# Altium integrated library RESISTORS_THD_AX14_8mm_Integrated_Library.IntLib: 36 symbols
Pins are listed as number, name and electrical type; pins without a type are passive.

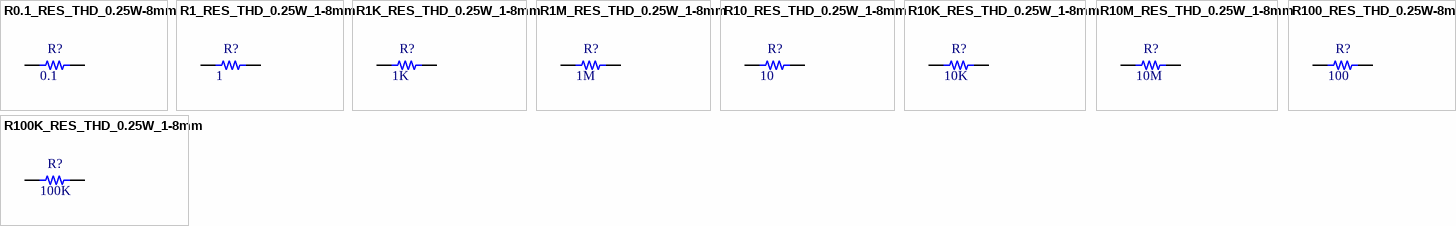
[diagram p0: symbols R0.1_RES_THD_0.25W-8mm to R100K_RES_THD_0.25W_1-8mm]

## R0.1_RES_THD_0.25W-8mm
designator R?  value 0.1  (hidden comment: *)
RESISTOR_0.1Ohm_THD_0.25W-8mm; Pacakge: THT; Rating: 0.25W; Type: 5%
footprint R0.1_RES_THD_AX14_0.25W (RESISTOR 0.1 Ohm  THD AX14 0.25W Length  8mm)
pins: 1, 2

## R1_RES_THD_0.25W_1-8mm
designator R?  value 1  (hidden comment: *)
RESISTOR_1Ohm_THD_0.25W-8mm; Pacakge: THT; Rating: 0.25W; Type: 5%
footprint R1_RES_THD_AX14_0.25W (RESISTOR 1 Ohm  THD AX14 0.25W Length  8mm)
pins: 1, 2

## R1K_RES_THD_0.25W_1-8mm
designator R?  value 1K  (hidden comment: *)
RESISTOR_1KOhm_THD_0.25W-8mm; Pacakge: THT; Rating: 0.25W; Type: 5%
footprint R1K_RES_THD_AX14_0.25W (RESISTOR 1K Ohm  THD AX14 0.25W Length  8mm)
pins: 1, 2

## R1M_RES_THD_0.25W_1-8mm
designator R?  value 1M  (hidden comment: *)
RESISTOR_1MOhm_THD_0.25W-8mm; Pacakge: THT; Rating: 0.25W; Type: 5%
footprint R1M_RES_THD_AX14_0.25W (RESISTOR 1M Ohm  THD AX14 0.25W Length  8mm)
pins: 1, 2

## R10_RES_THD_0.25W_1-8mm
designator R?  value 10  (hidden comment: *)
RESISTOR_10Ohm_THD_0.25W-8mm; Pacakge: THT; Rating: 0.25W; Type: 5%
footprint R10_RES_THD_AX14_0.25W (RESISTOR 10 Ohm  THD AX14 0.25W Length  8mm)
pins: 1, 2

## R10K_RES_THD_0.25W_1-8mm
designator R?  value 10K  (hidden comment: *)
RESISTOR_10KOhm_THD_0.25W-8mm; Pacakge: THT; Rating: 0.25W; Type: 5%
footprint R10K_RES_THD_AX14_0.25W (RESISTOR 10K Ohm  THD AX14 0.25W Length  8mm)
pins: 1, 2

## R10M_RES_THD_0.25W_1-8mm
designator R?  value 10M  (hidden comment: *)
RESISTOR_10MOhm_THD_0.25W-8mm; Pacakge: THT; Rating: 0.25W; Type: 5%
footprint R10M_RES_THD_AX14_0.25W (RESISTOR 10M Ohm  THD AX14 0.25W Length  8mm)
pins: 1, 2

## R100_RES_THD_0.25W-8mm
designator R?  value 100  (hidden comment: *)
RESISTOR_100Ohm_THD_0.25W-8mm; Pacakge: THT; Rating: 0.25W; Type: 5%; Parameter 1: *
footprint R100_RES_THD_AX14_0.25W (RESISTOR 100 Ohm  THD AX14 0.25W Length  8mm)
pins: 1, 2

## R100K_RES_THD_0.25W_1-8mm
designator R?  value 100K  (hidden comment: *)
RESISTOR_100KOhm_THD_0.25W-8mm; Pacakge: THT; Rating: 0.25W; Type: 5%
footprint R100K_RES_THD_AX14_0.25W (RESISTOR 100K Ohm  THD AX14 0.25W Length  8mm)
pins: 1, 2


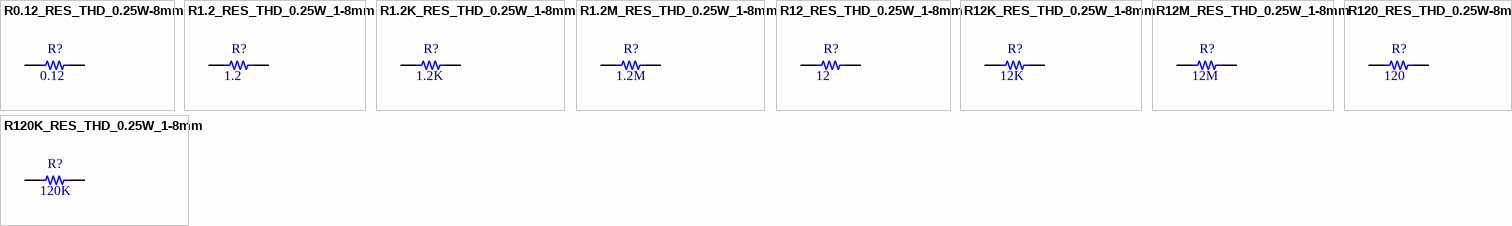
[diagram p1: symbols R0.12_RES_THD_0.25W-8mm to R120K_RES_THD_0.25W_1-8mm]

## R0.12_RES_THD_0.25W-8mm
designator R?  value 0.12  (hidden comment: *)
RESISTOR_0.12Ohm_THD_0.25W-8mm; Pacakge: THT; Rating: 0.25W; Type: 5%
footprint R0.12_RES_THD_AX14_0.25W (RESISTOR 0.12 Ohm  THD AX14 0.25W Length  8mm)
pins: 1, 2

## R1.2_RES_THD_0.25W_1-8mm
designator R?  value 1.2  (hidden comment: *)
RESISTOR_1.2Ohm_THD_0.25W-8mm; Pacakge: THT; Rating: 0.25W; Type: 5%
footprint R1.2_RES_THD_AX14_0.25W (RESISTOR 1.2 Ohm  THD AX14 0.25W Length  8mm)
pins: 1, 2

## R1.2K_RES_THD_0.25W_1-8mm
designator R?  value 1.2K  (hidden comment: *)
RESISTOR_1.2KOhm_THD_0.25W-8mm; Pacakge: THT; Rating: 0.25W; Type: 5%
footprint R1.2K_RES_THD_AX14_0.25W (RESISTOR 1.2K Ohm  THD AX14 0.25W Length  8mm)
pins: 1, 2

## R1.2M_RES_THD_0.25W_1-8mm
designator R?  value 1.2M  (hidden comment: *)
RESISTOR_1.2MOhm_THD_0.25W-8mm; Pacakge: THT; Rating: 0.25W; Type: 5%
footprint R1.2M_RES_THD_AX14_0.25W (RESISTOR 1.2M Ohm  THD AX14 0.25W Length  8mm)
pins: 1, 2

## R12_RES_THD_0.25W_1-8mm
designator R?  value 12  (hidden comment: *)
RESISTOR_12Ohm_THD_0.25W-8mm; Pacakge: THT; Rating: 0.25W; Type: 5%; Parameter 1: *
footprint R12_RES_THD_AX14_0.25W (RESISTOR 12 Ohm  THD AX14 0.25W Length  8mm)
pins: 1, 2

## R12K_RES_THD_0.25W_1-8mm
designator R?  value 12K  (hidden comment: *)
RESISTOR_12KOhm_THD_0.25W-8mm; Pacakge: THT; Rating: 0.25W; Type: 5%
footprint R12K_RES_THD_AX14_0.25W (RESISTOR 12K Ohm  THD AX14 0.25W Length  8mm)
pins: 1, 2

## R12M_RES_THD_0.25W_1-8mm
designator R?  value 12M  (hidden comment: *)
RESISTOR_12MOhm_THD_0.25W-8mm; Pacakge: THT; Rating: 0.25W; Type: 5%
footprint R12M_RES_THD_AX14_0.25W (RESISTOR 12M Ohm  THD AX14 0.25W Length  8mm)
pins: 1, 2

## R120_RES_THD_0.25W-8mm
designator R?  value 120  (hidden comment: *)
RESISTOR_120Ohm_THD_0.25W-8mm; Pacakge: THT; Rating: 0.25W; Type: 5%; Parameter 1: *
footprint R120_RES_THD_AX14_0.25W (RESISTOR 120 Ohm  THD AX14 0.25W Length  8mm)
pins: 1, 2

## R120K_RES_THD_0.25W_1-8mm
designator R?  value 120K  (hidden comment: *)
RESISTOR_120KOhm_THD_0.25W-8mm; Pacakge: THT; Rating: 0.25W; Type: 5%
footprint R120K_RES_THD_AX14_0.25W (RESISTOR 120K Ohm  THD AX14 0.25W Length  8mm)
pins: 1, 2


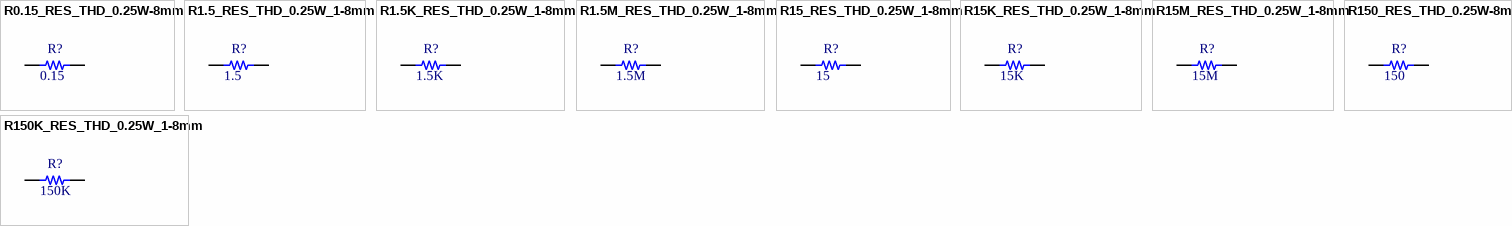
[diagram p2: symbols R0.15_RES_THD_0.25W-8mm to R150K_RES_THD_0.25W_1-8mm]

## R0.15_RES_THD_0.25W-8mm
designator R?  value 0.15  (hidden comment: *)
RESISTOR_0.15Ohm_THD_0.25W-8mm; Pacakge: THT; Rating: 0.25W; Type: 5%
footprint R0.15_RES_THD_AX14_0.25W (RESISTOR 0.15 Ohm  THD AX14 0.25W Length  8mm)
pins: 1, 2

## R1.5_RES_THD_0.25W_1-8mm
designator R?  value 1.5  (hidden comment: *)
RESISTOR_1.5Ohm_THD_0.25W-8mm; Pacakge: THT; Rating: 0.25W; Type: 5%
footprint R1.5_RES_THD_AX14_0.25W (RESISTOR 1.5 Ohm  THD AX14 0.25W Length  8mm)
pins: 1, 2

## R1.5K_RES_THD_0.25W_1-8mm
designator R?  value 1.5K  (hidden comment: *)
RESISTOR_1.5KOhm_THD_0.25W-8mm; Pacakge: THT; Rating: 0.25W; Type: 5%
footprint R1.5K_RES_THD_AX14_0.25W (RESISTOR 1.5K Ohm  THD AX14 0.25W Length  8mm)
pins: 1, 2

## R1.5M_RES_THD_0.25W_1-8mm
designator R?  value 1.5M  (hidden comment: *)
RESISTOR_1.5MOhm_THD_0.25W-8mm; Pacakge: THT; Rating: 0.25W; Type: 5%
footprint R1.5M_RES_THD_AX14_0.25W (RESISTOR 1.5M Ohm  THD AX14 0.25W Length  8mm)
pins: 1, 2

## R15_RES_THD_0.25W_1-8mm
designator R?  value 15  (hidden comment: *)
RESISTOR_15Ohm_THD_0.25W-8mm; Pacakge: THT; Rating: 0.25W; Type: 5%; Parameter 1: *
footprint R15_RES_THD_AX14_0.25W (RESISTOR 15 Ohm  THD AX14 0.25W Length  8mm)
pins: 1, 2

## R15K_RES_THD_0.25W_1-8mm
designator R?  value 15K  (hidden comment: *)
RESISTOR_15KOhm_THD_0.25W-8mm; Pacakge: THT; Rating: 0.25W; Type: 5%
footprint R15K_RES_THD_AX14_0.25W (RESISTOR 15K Ohm  THD AX14 0.25W Length  8mm)
pins: 1, 2

## R15M_RES_THD_0.25W_1-8mm
designator R?  value 15M  (hidden comment: *)
RESISTOR_15MOhm_THD_0.25W-8mm; Pacakge: THT; Rating: 0.25W; Type: 5%
footprint R15M_RES_THD_AX14_0.25W (RESISTOR 15M Ohm  THD AX14 0.25W Length  8mm)
pins: 1, 2

## R150_RES_THD_0.25W-8mm
designator R?  value 150  (hidden comment: *)
RESISTOR_150Ohm_THD_0.25W-8mm; Pacakge: THT; Rating: 0.25W; Type: 5%; Parameter 1: *
footprint R150_RES_THD_AX14_0.25W (RESISTOR 150 Ohm  THD AX14 0.25W Length  8mm)
pins: 1, 2

## R150K_RES_THD_0.25W_1-8mm
designator R?  value 150K  (hidden comment: *)
RESISTOR_150KOhm_THD_0.25W-8mm; Pacakge: THT; Rating: 0.25W; Type: 5%
footprint R150K_RES_THD_AX14_0.25W (RESISTOR 150K Ohm  THD AX14 0.25W Length  8mm)
pins: 1, 2


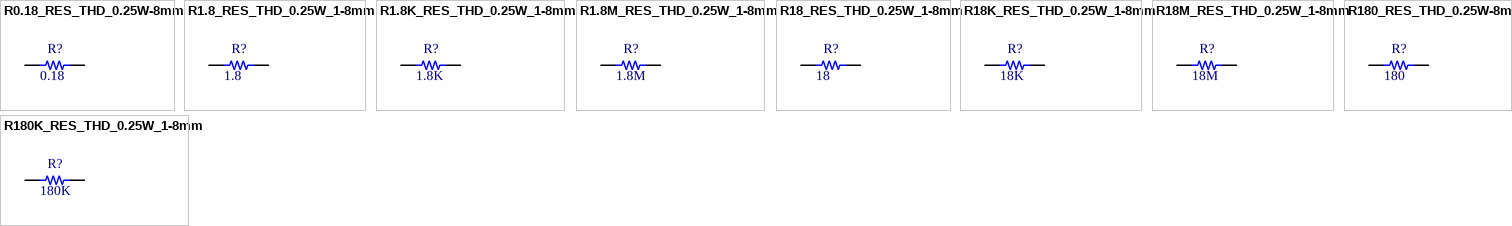
[diagram p3: symbols R0.18_RES_THD_0.25W-8mm to R180K_RES_THD_0.25W_1-8mm]

## R0.18_RES_THD_0.25W-8mm
designator R?  value 0.18  (hidden comment: *)
RESISTOR_0.18Ohm_THD_0.25W-8mm; Pacakge: THT; Rating: 0.25W; Type: 5%
footprint R0.18_RES_THD_AX14_0.25W (RESISTOR 0.18 Ohm  THD AX14 0.25W Length  8mm)
pins: 1, 2

## R1.8_RES_THD_0.25W_1-8mm
designator R?  value 1.8  (hidden comment: *)
RESISTOR_1.8Ohm_THD_0.25W-8mm; Pacakge: THT; Rating: 0.25W; Type: 5%
footprint R1.8_RES_THD_AX14_0.25W (RESISTOR 1.8 Ohm  THD AX14 0.25W Length  8mm)
pins: 1, 2

## R1.8K_RES_THD_0.25W_1-8mm
designator R?  value 1.8K  (hidden comment: *)
RESISTOR_1.8KOhm_THD_0.25W-8mm; Pacakge: THT; Rating: 0.25W; Type: 5%
footprint R1.8K_RES_THD_AX14_0.25W (RESISTOR 1.8K Ohm  THD AX14 0.25W Length  8mm)
pins: 1, 2

## R1.8M_RES_THD_0.25W_1-8mm
designator R?  value 1.8M  (hidden comment: *)
RESISTOR_1.8MOhm_THD_0.25W-8mm; Pacakge: THT; Rating: 0.25W; Type: 5%
footprint R1.8M_RES_THD_AX14_0.25W (RESISTOR 1.8M Ohm  THD AX14 0.25W Length  8mm)
pins: 1, 2

## R18_RES_THD_0.25W_1-8mm
designator R?  value 18  (hidden comment: *)
RESISTOR_18Ohm_THD_0.25W-8mm; Pacakge: THT; Rating: 0.25W; Type: 5%; Parameter 1: *
footprint R18_RES_THD_AX14_0.25W (RESISTOR 18 Ohm  THD AX14 0.25W Length  8mm)
pins: 1, 2

## R18K_RES_THD_0.25W_1-8mm
designator R?  value 18K  (hidden comment: *)
RESISTOR_18KOhm_THD_0.25W-8mm; Pacakge: THT; Rating: 0.25W; Type: 5%
footprint R18K_RES_THD_AX14_0.25W (RESISTOR 18K Ohm  THD AX14 0.25W Length  8mm)
pins: 1, 2

## R18M_RES_THD_0.25W_1-8mm
designator R?  value 18M  (hidden comment: *)
RESISTOR_18MOhm_THD_0.25W-8mm; Pacakge: THT; Rating: 0.25W; Type: 5%
footprint R18M_RES_THD_AX14_0.25W (RESISTOR 18M Ohm  THD AX14 0.25W Length  8mm)
pins: 1, 2

## R180_RES_THD_0.25W-8mm
designator R?  value 180  (hidden comment: *)
RESISTOR_180Ohm_THD_0.25W-8mm; Pacakge: THT; Rating: 0.25W; Type: 5%; Parameter 1: *
footprint R180_RES_THD_AX14_0.25W (RESISTOR 180 Ohm  THD AX14 0.25W Length  8mm)
pins: 1, 2

## R180K_RES_THD_0.25W_1-8mm
designator R?  value 180K  (hidden comment: *)
RESISTOR_180KOhm_THD_0.25W-8mm; Pacakge: THT; Rating: 0.25W; Type: 5%
footprint R180K_RES_THD_AX14_0.25W (RESISTOR 180K Ohm  THD AX14 0.25W Length  8mm)
pins: 1, 2